# Altium footprint library INFINEON PG-TDSON-8 6.15X5.32MM.PCBLIB: 1 footprints
Each footprint in its own frame and in the unit in brackets; x right, y up, seen from the top. Pads: shape width x height; smd on the part's side, far side on the other; paste and mask are expansions set on the pad; w line width, h text height; cw(c..) or ccw(c..) is an arc to the next point about the centre after c.
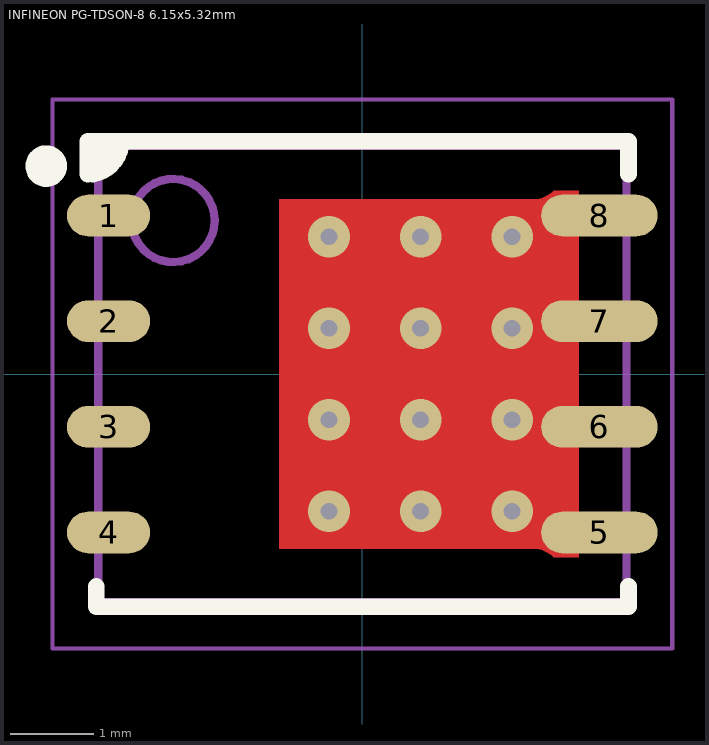
[diagram p0: the footprint, top view; thin cyan lines are the x and y axes]

## INFINEON PG-TDSON-8 6.15x5.32mm [mm] "TDSON, 8-Leads, Body 6.15x5.32mm, Pitch 1.27mm, Thermal Pad 3.60x4.05mm, IPC Medium Density"
height 1.1
pads (8):
  oval 1x0.5 smd: 1(-3.05,1.905) 2(-3.05,0.635) 3(-3.05,-0.635) 4(-3.05,-1.905)
  oval 1.4x0.5 smd: 5(2.85,-1.905) 6(2.85,-0.635) 7(2.85,0.635) 8(2.85,1.905)
via -0.4,1.65 diameter 0.5 hole 0.2
via 0.7,1.65 diameter 0.5 hole 0.2
via 1.8,1.65 diameter 0.5 hole 0.2
via -0.4,0.55 diameter 0.5 hole 0.2
via 0.7,0.55 diameter 0.5 hole 0.2
via 1.8,0.55 diameter 0.5 hole 0.2
via -0.4,-0.55 diameter 0.5 hole 0.2
via 0.7,-0.55 diameter 0.5 hole 0.2
via 1.8,-0.55 diameter 0.5 hole 0.2
via -0.4,-1.65 diameter 0.5 hole 0.2
via 0.7,-1.65 diameter 0.5 hole 0.2
via 1.8,-1.65 diameter 0.5 hole 0.2
Top Layer:
  region: -1,2.1 -1,-2.1 2.059,-2.1 2.092,-2.102 2.158,-2.115 2.22,-2.14 2.275,-2.177 2.3,-2.2 2.6,-2.2 2.6,2.2 2.3,2.2 2.275,2.177 2.22,2.14 2.158,2.115 2.092,2.102 2.059,2.1
Top Overlay:
  circle w0.25: c-3.8,2.5 r0.125
  region: -3.3,2.8 -2.9,2.8 -2.9,2.7 -3.2,2.4 -3.3,2.4
  lines w0.2: -3.2,-2.555 -3.2,-2.8 -0.11,-2.8 3.2,-2.8 3.2,-2.555 ; -2.9,2.8 cw(c-3.3,2.8) -3.3,2.4 ; 3.2,2.4 3.2,2.8 -0.11,2.8 -3.3,2.8 -3.3,2.4 ; -3.3,2.4 -3.3,2.4
Mechanical 13:
  circle w0.1: c-2.275,1.845 r0.5
  lines w0.1: -3.175,-2.745 -3.175,2.745 3.175,2.745 3.175,-2.745 -3.175,-2.745
Mechanical 15:
  lines w0.05: -3.725,-3.3 -3.725,3.3 3.725,3.3 3.725,-3.3 -3.725,-3.3
  lines w0.1: -0.5,0 0.5,0 ; 0,-0.5 0,0.5
3D body: height 1.1, standoff 0.01, extent -3.175,-2.745 3.175,2.745